# EAGLE library part MM74C240WM (library Fairchild_By_element14_Batch_1)
Inverting Non-Inverting Octal Buffer
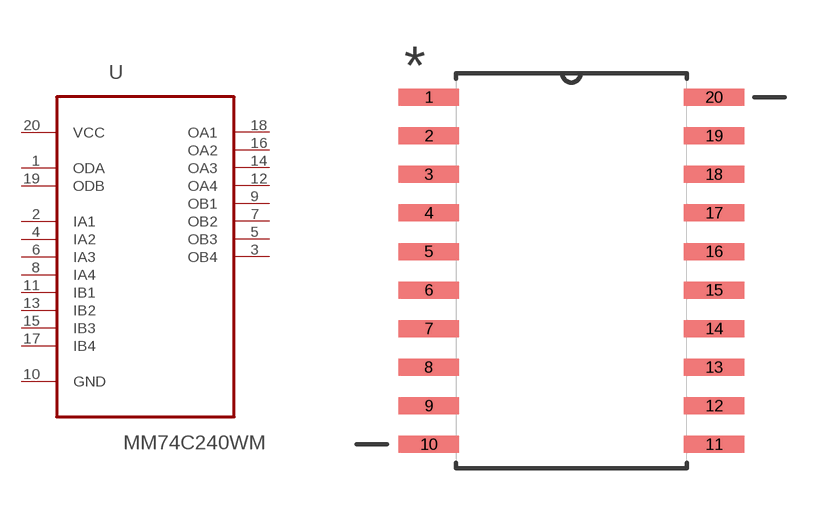
[diagram p226: symbol with the pads of SOIC127P1032X265-20N; footprint SOIC127P1032X265-20N]

Designator prefix U

## MM74C240WM (MPN: MM74C240WM; OC_FARNELL: -; OC_NEWARK: 78K6034; PACKAGE: SOIC-20; SUPPLIER: Fairchild)  [SOIC127P1032X265-20N]
1  ODA  in
2  IA1  in
3  OB4  out
4  IA2  in
5  OB3  out
6  IA3  in
7  OB2  out
8  IA4  in
9  OB1  out
10  GND  pas
11  IB1  in
12  OA4  out
13  IB2  in
14  OA3  out
15  IB3  in
16  OA2  out
17  IB4  in
18  OA1  out
19  ODB  in
20  VCC  pwr

## Footprint SOIC127P1032X265-20N (pad centres in mm)
smd 1.981 x 0.559: 1 -4.699,5.715; 2 -4.699,4.445; 3 -4.699,3.175; 4 -4.699,1.905; 5 -4.699,0.635; 6 -4.699,-0.635; 7 -4.699,-1.905; 8 -4.699,-3.175; 9 -4.699,-4.445; 10 -4.699,-5.715; 11 4.699,-5.715; 12 4.699,-4.445; 13 4.699,-3.175; 14 4.699,-1.905; 15 4.699,-0.635; 16 4.699,0.635; 17 4.699,1.905; 18 4.699,3.175; 19 4.699,4.445; 20 4.699,5.715